# EAGLE library part 74HC595BZX (library 74HC595BZX)
74HC595; 74HCT595 - 8-bit serial-in, serial or parallel-out shift register with output latches;\n 3-state@en-us Source: Datasheet <https://assets.nexperia.com/documents/data-sheet/74HC_HCT595.pdf>
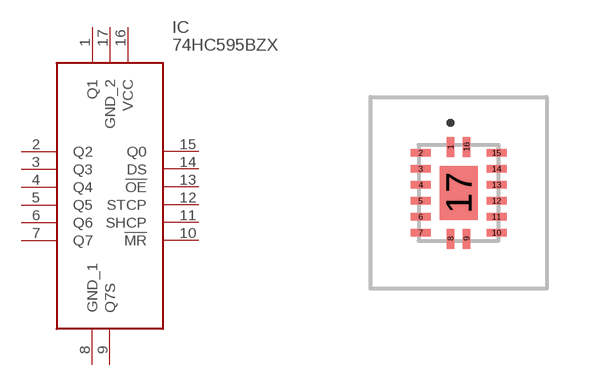
[diagram p0: symbol with the pads of 74HC595BZX; footprint 74HC595BZX]

Designator prefix IC

## 74HC595BZX (Description: 74HC595; 74HCT595 - 8-bit serial-in, serial or parallel-out shift register with output latches;\n 3-state@en-us; Height: 0.48mm; Manufacturer_Name: Nexperia; Manufacturer_Part_Number: 74HC595BZX; Mouser_Part_Number: 771-74HC595BZX; Mouser_Price-Stock: https://www.mouser.co.uk/ProductDetail/Nexperia/74HC595BZX?qs=ljCeji4nMDlf8kJc%252BqgNqw%3D%3D)  [74HC595BZX]
1  Q1
2  Q2
3  Q3
4  Q4
5  Q5
6  Q6
7  Q7
8  GND_1
9  Q7S
10  !MR
11  SHCP
12  STCP
13  !OE
14  DS
15  Q0
16  VCC
17  GND_2

## Footprint 74HC595BZX (pad centres in mm)
74HC595BZX-3
smd 0.18 x 0.5: 1 -0.2,1.15; 8 -0.2,-1.15; 9 0.2,-1.15; 16 0.2,1.15
smd 0.5 x 0.18: 2 -0.95,1; 3 -0.95,0.6; 4 -0.95,0.2; 5 -0.95,-0.2; 6 -0.95,-0.6; 7 -0.95,-1; 10 0.95,-1; 11 0.95,-0.6; 12 0.95,-0.2; 13 0.95,0.2; 14 0.95,0.6; 15 0.95,1
smd 0.95 x 1.35: 17 0,0